# EAGLE library part SN74LVC1G123 (library NewPart)
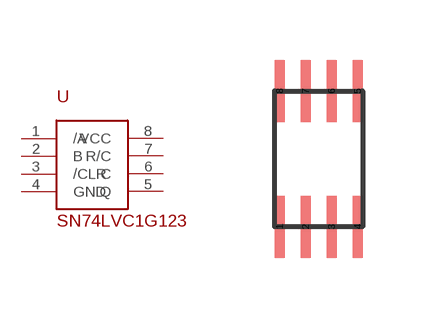
[diagram p4: symbol with the pads of SSOP8; footprint SSOP8]

Designator prefix U

## SN74LVC1G123  [SSOP8]
1  /A
2  B
3  /CLR
4  GND
5  Q
6  C
7  R/C
8  VCC

## Footprint SSOP8 (pad centres in mm)
SSOP-8 Package
smd 0.25 x 1.55: 1 -0.975,-1.7; 2 -0.325,-1.7; 3 0.325,-1.7; 4 0.975,-1.7; 5 0.975,1.7; 6 0.325,1.7; 7 -0.325,1.7; 8 -0.975,1.7